# Altium schematic symbol library Schlib1.SchLib: 2 symbols
Pins are listed as number, name and electrical type; pins without a type are passive.

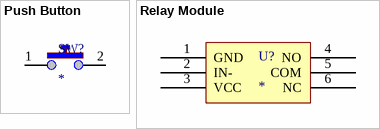
[diagram p0: symbols Push Button to Relay Module]

## Push Button
designator SW?
footprint 2 Pin Solder Cable
pins: 1, 2

## Relay Module
designator U?
footprint RelayModule
pins: 1 GND, 2 IN-, 3 VCC, 4 NO, 5 COM, 6 NC